# EAGLE library part CONECTOR_EDGE_LADO_SPECTRUM (library untitled)
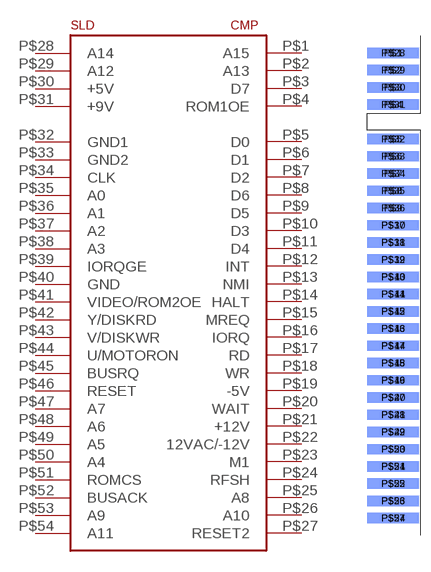
[diagram p0: symbol with the pads of CONECTOR_LADO_SPECTRUM; footprint CONECTOR_LADO_SPECTRUM]

Designator prefix -

## CONECTOR_EDGE_LADO_SPECTRUM  [CONECTOR_LADO_SPECTRUM]
P$1  A15
P$2  A13
P$3  D7
P$4  ROM1OE
P$5  D0
P$6  D1
P$7  D2
P$8  D6
P$9  D5
P$10  D3
P$11  D4
P$12  INT
P$13  NMI
P$14  HALT
P$15  MREQ
P$16  IORQ
P$17  RD
P$18  WR
P$19  -5V
P$20  WAIT
P$21  +12V
P$22  12VAC/-12V
P$23  M1
P$24  RFSH
P$25  A8
P$26  A10
P$27  RESET2
P$28  A14
P$29  A12
P$30  +5V
P$31  +9V
P$32  GND1
P$33  GND2
P$34  CLK
P$35  A0
P$36  A1
P$37  A2
P$38  A3
P$39  IORQGE
P$40  GND
P$41  VIDEO/ROM2OE
P$42  Y/DISKRD
P$43  V/DISKWR
P$44  U/MOTORON
P$45  BUSRQ
P$46  RESET
P$47  A7
P$48  A6
P$49  A5
P$50  A4
P$51  ROMCS
P$52  BUSACK
P$53  A9
P$54  A11

## Footprint CONECTOR_LADO_SPECTRUM (pad centres in mm)
smd 7.62 x 1.524: P$1 2.54,2.54; P$2 2.54,0; P$3 2.54,-2.54; P$4 2.54,-5.08; P$5 2.54,-10.16; P$6 2.54,-12.7; P$7 2.54,-15.24; P$8 2.54,-17.78; P$9 2.54,-20.32; P$10 2.54,-22.86; P$11 2.54,-25.4; P$12 2.54,-27.94; P$13 2.54,-30.48; P$14 2.54,-33.02; P$15 2.54,-35.56; P$16 2.54,-38.1; P$17 2.54,-40.64; P$18 2.54,-43.18; P$19 2.54,-45.72; P$20 2.54,-48.26; P$21 2.54,-50.8; P$22 2.54,-53.34; P$23 2.54,-55.88; P$24 2.54,-58.42; P$25 2.54,-60.96; P$26 2.54,-63.5; P$27 2.54,-66.04
smd 7.62 x 1.524 bottom: P$28 2.54,2.54; P$29 2.54,0; P$30 2.54,-2.54; P$31 2.54,-5.08; P$32 2.54,-10.16; P$33 2.54,-12.7; P$34 2.54,-15.24; P$35 2.54,-17.78; P$36 2.54,-20.32; P$37 2.54,-22.86; P$38 2.54,-25.4; P$39 2.54,-27.94; P$40 2.54,-30.48; P$41 2.54,-33.02; P$42 2.54,-35.56; P$43 2.54,-38.1; P$44 2.54,-40.64; P$45 2.54,-43.18; P$46 2.54,-45.72; P$47 2.54,-48.26; P$48 2.54,-50.8; P$49 2.54,-53.34; P$50 2.54,-55.88; P$51 2.54,-58.42; P$52 2.54,-60.96; P$53 2.54,-63.5; P$54 2.54,-66.04